# EAGLE library part LV8548M (library HBridge)
https://www.onsemi.com/pub/Collateral/LV8548MC-D.PDF
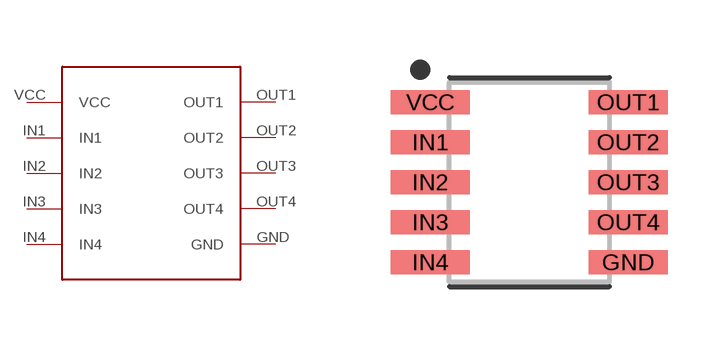
[diagram p0: symbol with the pads of SOP100P600X175-10N; footprint SOP100P600X175-10N]

Designator prefix -

## LV8548M  [SOP100P600X175-10N]
GND  GND
IN1  IN1
IN2  IN2
IN3  IN3
IN4  IN4
OUT1  OUT1
OUT2  OUT2
OUT3  OUT3
OUT4  OUT4
VCC  VCC

## Footprint SOP100P600X175-10N (pad centres in mm)
10-SOP, 1.00 mm pitch, 6.00 mm span, 4.90 X 3.90 X 1.75 mm body 10-pin SOP package with 1.00 mm pitch, 6.00 mm span with body size 4.90 X 3.90 X 1.75 mm
smd 1.968 x 0.599: GND 2.473,-2; IN1 -2.473,1; IN2 -2.473,0; IN3 -2.473,-1; IN4 -2.473,-2; OUT1 2.473,2; OUT2 2.473,1; OUT3 2.473,0; OUT4 2.473,-1; VCC -2.473,2